# Altium footprint library DIP_Inductor.PcbLib: 2 footprints
Each footprint in its own frame and in the unit in brackets; x right, y up, seen from the top. Pads: shape width x height; smd on the part's side, far side on the other; paste and mask are expansions set on the pad; w line width, h text height; cw(c..) or ccw(c..) is an arc to the next point about the centre after c.
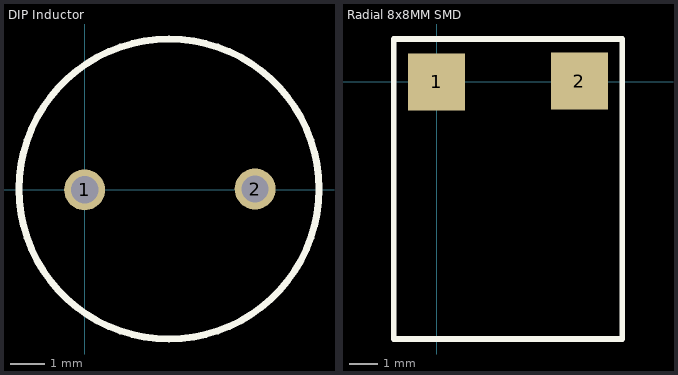
[diagram p0: the footprints below, top view; thin cyan lines are the x and y axes]

## DIP Inductor [mm]
pads (2):
  round 1.2 hole 0.8: 1(0,0) 2(5,0.025)
Top Overlay:
  circle w0.2: c2.475,0.025 r4.4
3D body: height 11.3, standoff -30.5, extent -2,-4.475 7,4.525

## Radial 8x8MM SMD [mm]
pads (2):
  rect 2x2 smd: 1(0,0) 2(5,0.025)
Top Overlay:
  lines w0.2: -1.5,-9 -1.5,1.5 6.5,1.5 6.5,-9 -1.5,-9